# EAGLE library part MX150_20_PIN (library Connectors)
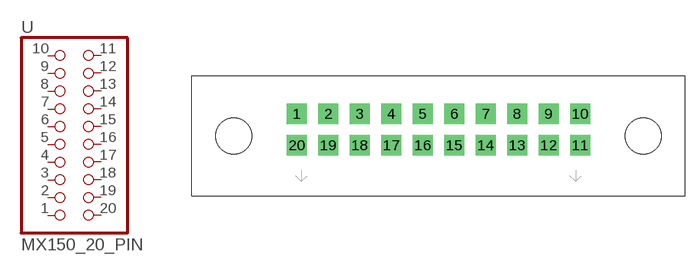
[diagram p0: symbol with the pads of MX150_20; footprint MX150_20]

Designator prefix -

## MX150_20_PIN  [MX150_20]
1  1  pas
2  3  pas
3  5  pas
4  7  pas
5  9  pas
6  11  pas
7  13  pas
8  15  pas
9  17  pas
10  19  pas
11  2  pas
12  4  pas
13  6  pas
14  8  pas
15  10  pas
16  12  pas
17  14  pas
18  16  pas
19  18  pas
20  20  pas

## Footprint MX150_20 (pad centres in mm)
drill 1.5 square: 1 -15.75,2.46; 2 -12.25,2.46; 3 -8.75,2.46; 4 -5.25,2.46; 5 -1.75,2.46; 6 1.75,2.46; 7 5.25,2.46; 8 8.75,2.46; 9 12.25,2.46; 10 15.75,2.46; 11 15.75,-1.04; 12 12.25,-1.04; 13 8.75,-1.04; 14 5.25,-1.04; 15 1.75,-1.04; 16 -1.75,-1.04; 17 -5.25,-1.04; 18 -8.75,-1.04; 19 -12.25,-1.04; 20 -15.75,-1.04
hole 4 at -22.75,0
hole 4 at 22.75,0